# EAGLE library part SCREWTERM_7P (library ME507)
PHOENIX CONNECTOR
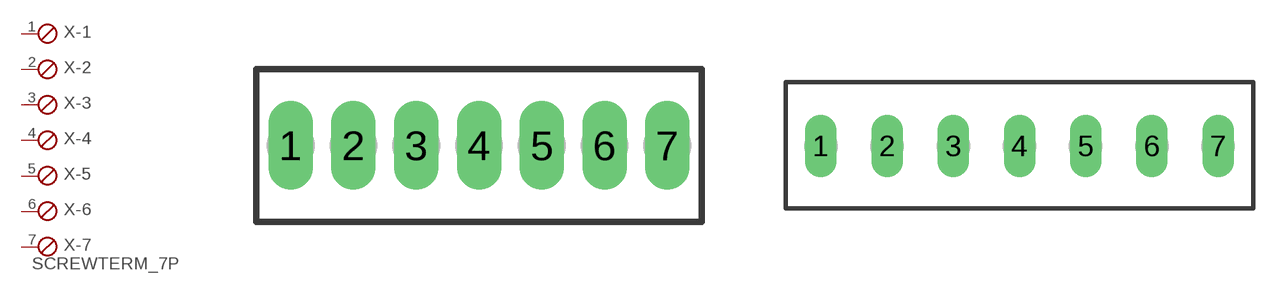
[diagram p3: symbol with the pads of 7POL254; footprints 7POL254, 7POL381]

Designator prefix X; gates -1=SKB -2=SKB -3=SKB -4=SKB -5=SKB -6=SKB -7=SKBV

## SCREWTERM_7P_254  [7POL254]
1  -1:1  pas
2  -2:1  pas
3  -3:1  pas
4  -4:1  pas
5  -5:1  pas
6  -6:1  pas
7  -7:1  pas

## SCREWTERM_7P_381  [7POL381]
Pads as for 7POL254

## SCREWTERM_7P_508  [7POL508]
Pads as for 7POL254

## Footprint 7POL254 (pad centres in mm)
PHOENIX CONNECTOR
drill 1.2 long: 1 -7.62,0; 2 -5.08,0; 3 -2.54,0; 4 0,0; 5 2.54,0; 6 5.08,0; 7 7.62,0

## Footprint 7POL381 (pad centres in mm)
PHOENIX CONNECTOR
drill 1.2 long: 1 -11.43,0; 2 -7.62,0; 3 -3.81,0; 4 0,0; 5 3.81,0; 6 7.62,0; 7 11.43,0

## Footprint 7POL508 (pad centres in mm)
PHOENIX CONNECTOR
drill 1.4 long: 1 -15.24,0; 2 -10.16,0; 3 -5.08,0; 4 0,0; 5 5.08,0; 6 10.16,0; 7 15.24,0